# Altium schematic symbol library DF636P396DSA.SchLib: 1 symbol
Pins are listed as number, name and electrical type; pins without a type are passive.

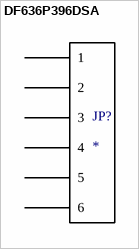
[diagram p0: symbol DF636P396DSA]

## DF636P396DSA
designator JP?
footprint DF636P39DSA
pins: 1, 2, 3, 4, 5, 6